# Altium schematic symbol library IS-IG-1-G1.SchLib: 1 symbol
Pins are listed as number, name and electrical type; pins without a type are passive.

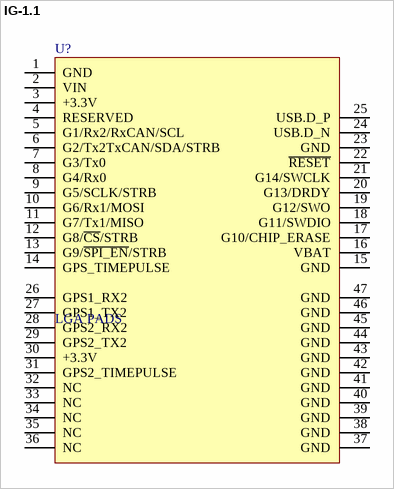
[diagram p0: symbol IG-1.1]

## IG-1.1
designator U?, comment LGA PADS
IMX multi-frequency RTK-GNSS Module
footprint IG-1-G1_LGA (IMX multi-frequency RTK-GNSS Module)
pins: 1 GND, 2 VIN, 3 +3.3V, 4 RESERVED, 5 G1/Rx2/RxCAN/SCL, 6 G2/Tx2TxCAN/SDA/STRB, 7 G3/Tx0, 8 G4/Rx0, 9 G5/SCLK/STRB, 10 G6/Rx1/MOSI, 11 G7/Tx1/MISO, 12 G8/~{CS}/STRB, 13 G9/~{SPI_EN}/STRB, 14 GPS_TIMEPULSE, 15 GND, 16 VBAT, 17 G10/CHIP_ERASE, 18 G11/SWDIO, 19 G12/SWO, 20 G13/DRDY, 21 G14/SWCLK, 22 ~{RESET}, 23 GND, 24 USB.D_N, 25 USB.D_P, 26 GPS1_RX2, 27 GPS1_TX2, 28 GPS2_RX2, 29 GPS2_TX2, 30 +3.3V, 31 GPS2_TIMEPULSE, 32 NC, 33 NC, 34 NC, 35 NC, 36 NC, 37 GND, 38 GND, 39 GND, 40 GND, 41 GND, 42 GND, 43 GND, 44 GND, 45 GND, 46 GND, 47 GND